# Altium schematic symbol library SimpleNCPower.SchLib: 5 symbols
Pins are listed as number, name and electrical type; pins without a type are passive.

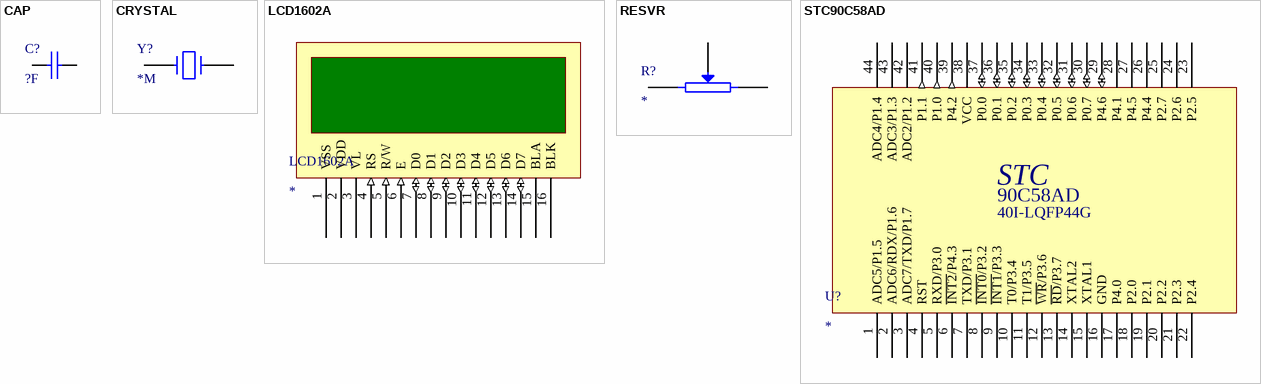
[diagram p0: symbols CAP to STC90C58AD]

## CAP
designator C?, comment ?F
pins: 1, 2

## CRYSTAL
designator Y?, comment *M
pins: 1, 2

## LCD1602A
designator LCD1602A
pins: 1 VSS (power), 2 VDD (power), 3 VL, 4 RS (in), 5 R/W (in), 6 E (in), 7 D0 (io), 8 D1 (io), 9 D2 (io), 10 D3 (io), 11 D4 (io), 12 D5 (io), 13 D6 (io), 14 D7 (io), 15 BLA (power), 16 BLK (power)

## RESVR
designator R?
pins: 1, 2, 3 W

## STC90C58AD
designator U?
pins: 1 ADC5/P1.5 (power), 2 ADC6/RDX/P1.6 (power), 3 ADC7/TXD/P1.7 (power), 4 RST, 5 RXD/P3.0 (power), 6 ~{INT2}/P4.3 (power), 7 TXD/P3.1 (power), 8 ~{INT0}/P3.2 (power), 9 ~{INT1}/P3.3 (power), 10 T0/P3.4 (power), 11 T1/P3.5 (power), 12 ~{WR}/P3.6 (power), 13 ~{RD}/P3.7 (power), 14 XTAL2 (power), 15 XTAL1 (power), 16 GND (power), 17 P4.0 (power), 18 P2.0 (power), 19 P2.1 (power), 20 P2.2 (power), 21 P2.3 (power), 22 P2.4 (power), 23 P2.5 (power), 24 P2.6 (power), 25 P2.7 (power), 26 P4.4 (power), 27 P4.5 (power), 28 P4.1 (power), 29 P4.6 (io), 30 P0.7 (io), 31 P0.6 (io), 32 P0.5 (io), 33 P0.4 (io), 34 P0.3 (io), 35 P0.2 (io), 36 P0.1 (io), 37 P0.0 (io), 38 VCC (power), 39 P4.2 (out), 40 P1.0 (out), 41 P1.1 (out), 42 ADC2/P1.2 (power), 43 ADC3/P1.3 (power), 44 ADC4/P1.4 (power)
text: STC; 90C58AD; 40I-LQFP44G